# EAGLE library part HD-A51?RD (library #PaJa_displeje)
LED displej - SA - 14,2 mm - trimistny HD-A512RD = zelena HD-A515RD = cervena
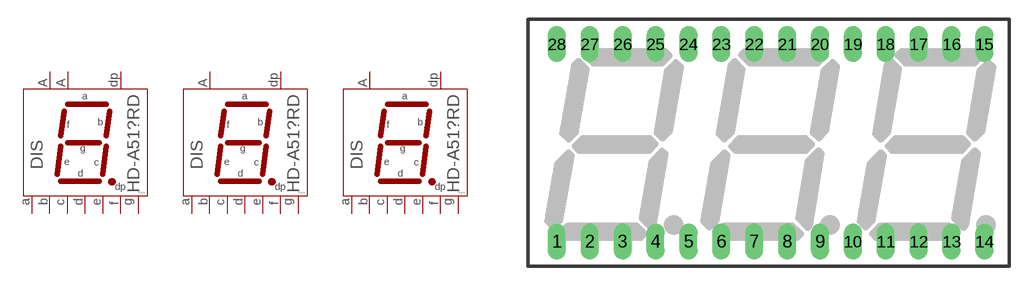
[diagram p8: symbol with the pads of HD-A51X; footprint HD-A51X]

Designator prefix DIS; gates DISP3=7SEG-CA1 DISP2=7SEG-CA1 DISP1=7SEG-CA2

## HD-A51RD  [HD-A51X]
1  DISP1:E  pas
2  DISP1:D  pas
3  DISP1:CA1  pas
4  DISP1:C  pas
5  DISP1:DP  pas
6  DISP2:E  pas
7  DISP2:D  pas
8  DISP2:C  pas
9  DISP2:DP  pas
10  DISP3:E  pas
11  DISP3:D  pas
12  DISP3:G  pas
13  DISP3:C  pas
14  DISP3:DP  pas
15  DISP3:B  pas
16  DISP3:A  pas
17  DISP3:F  pas
18  DISP3:CA1  pas
19  DISP2:CA1  pas
20  DISP2:B  pas
21  DISP2:A  pas
22  DISP2:G  pas
23  DISP2:F  pas
24  DISP1:B  pas
25  DISP1:A  pas
26  DISP1:CA2  pas
27  DISP1:F  pas
28  DISP1:G  pas

## Footprint HD-A51X (pad centres in mm)
drill 0.813 pad 1.4 long: 1 -16.51,-7.62; 2 -13.97,-7.62; 3 -11.43,-7.62; 4 -8.89,-7.62; 5 -6.35,-7.62; 6 -3.81,-7.62; 7 -1.27,-7.62; 8 1.27,-7.62; 9 3.81,-7.62; 10 6.35,-7.62; 11 8.89,-7.62; 12 11.43,-7.62; 13 13.97,-7.62; 14 16.51,-7.62; 15 16.51,7.62; 16 13.97,7.62; 17 11.43,7.62; 18 8.89,7.62; 19 6.35,7.62; 20 3.81,7.62; 21 1.27,7.62; 22 -1.27,7.62; 23 -3.81,7.62; 24 -6.35,7.62; 25 -8.89,7.62; 26 -11.43,7.62; 27 -13.97,7.62; 28 -16.51,7.62